# EAGLE library part A_STEPPER_DRIVER_POLOLU_A4988 (library devon)
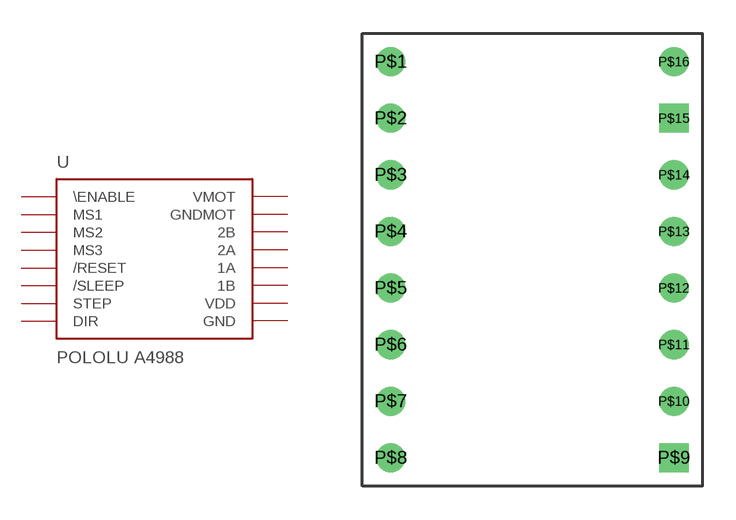
[diagram p1: symbol with the pads of A_STEPPER_DRIVER_POLOLU_A4988; footprint A_STEPPER_DRIVER_POLOLU_A4988]

Designator prefix -

## A_STEPPER_DRIVER_POLOLU_A4988  [A_STEPPER_DRIVER_POLOLU_A4988]
P$1  \ENABLE
P$2  MS1
P$3  MS2
P$4  MS3
P$5  /RESET
P$6  /SLEEP
P$7  STEP
P$8  DIR
P$9  GND
P$10  VDD
P$11  1B
P$12  1A
P$13  2A
P$14  2B
P$15  GNDMOT
P$16  VMOT

## Footprint A_STEPPER_DRIVER_POLOLU_A4988 (pad centres in mm)
drill 0.8: P$1 1.27,-1.27; P$2 1.27,-3.81; P$3 1.27,-6.35; P$4 1.27,-8.89; P$5 1.27,-11.43; P$6 1.27,-13.97; P$7 1.27,-16.51; P$8 1.27,-19.05; P$10 13.97,-16.51; P$11 13.97,-13.97; P$12 13.97,-11.43; P$13 13.97,-8.89; P$14 13.97,-6.35; P$16 13.97,-1.27
drill 0.8 square: P$9 13.97,-19.05; P$15 13.97,-3.81